# Altium footprint library 74404020100.PcbLib: 1 footprints
Each footprint in its own frame and in the unit in brackets; x right, y up, seen from the top. Pads: shape width x height; smd on the part's side, far side on the other; paste and mask are expansions set on the pad; w line width, h text height; cw(c..) or ccw(c..) is an arc to the next point about the centre after c.
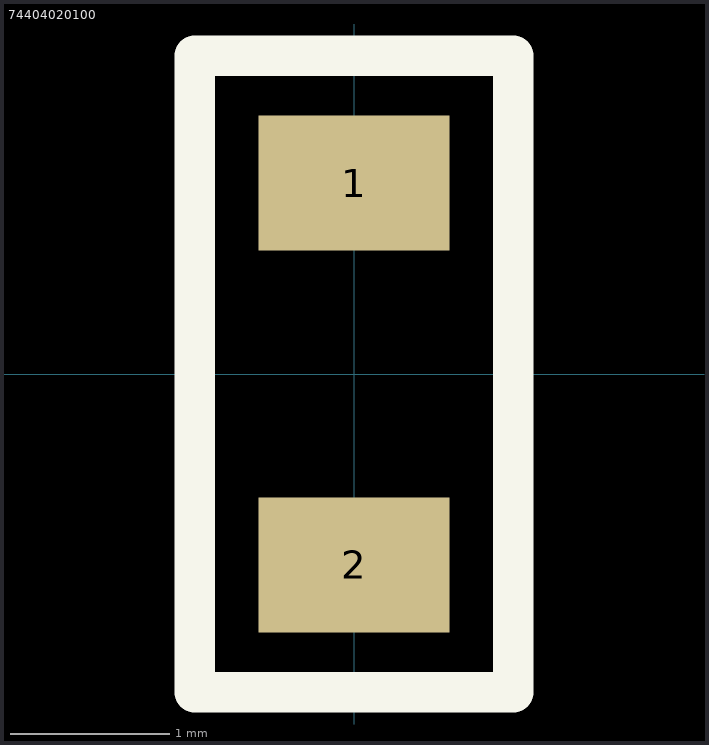
[diagram p0: the footprint, top view; thin cyan lines are the x and y axes]

## 74404020100 [mm]
pads (2):
  rect 1.2x0.85 smd mask+0.05: 1(0,1.2) 2(0,-1.2)
Top Overlay:
  lines w0.254: -1,-2 1,-2 1,2 -1,2 -1,-2
3D body "STEP-WE-LQS-2010-rev1.stp": height 1.01, standoff 0.01, extent -0.8,-1 0.824,1